# Altium footprint library Male Headers Dual Row.PcbLib: 19 footprints (part 2 of 2)
Each footprint in its own frame and in the unit in brackets; x right, y up, seen from the top. Pads: shape width x height; smd on the part's side, far side on the other; paste and mask are expansions set on the pad; w line width, h text height; cw(c..) or ccw(c..) is an arc to the next point about the centre after c.
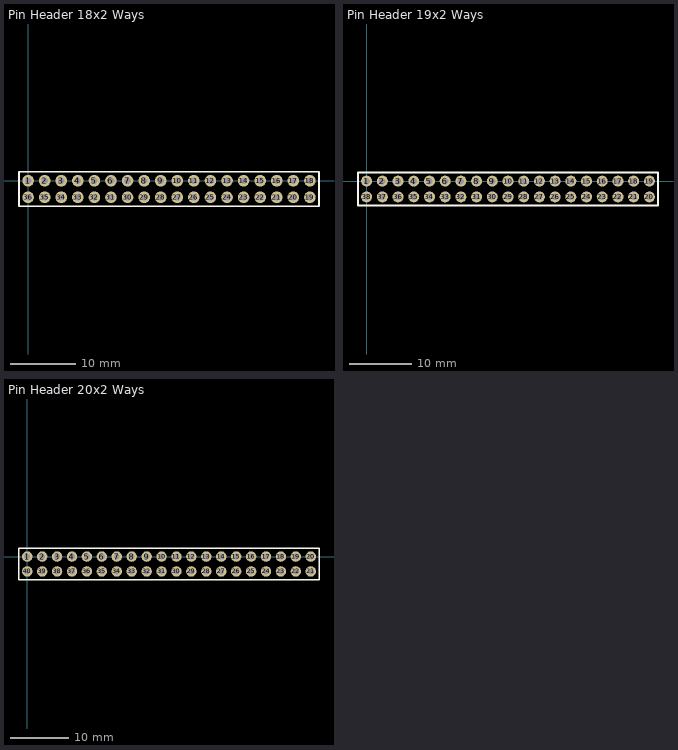
[diagram p1: the footprints below, top view; thin cyan lines are the x and y axes]

## Pin Header 18x2 Ways [mil] "Connector Header 18x2 ways PTH 0.100\" (2.54mm)"
pads (36):
  round 70 hole 40: 1(0,0) 2(100,0) 3(200,0) 4(300,0) 5(400,0) 6(500,0) 7(600,0) 8(700,0) 9(800,0) 10(900,0) 11(1000,0) 12(1100,0) 13(1200,0) 14(1300,0) 15(1400,0) 16(1500,0) 17(1600,0) 18(1700,0) 19(1700,-100) 20(1600,-100) 21(1500,-100) 22(1400,-100) 23(1300,-100) 24(1200,-100) 25(1100,-100) 26(1000,-100) 27(900,-100) 28(800,-100) 29(700,-100) 30(600,-100) 31(500,-100) 32(400,-100) 33(300,-100) 34(200,-100) 35(100,-100) 36(0,-100)
Top Overlay:
  lines w10: -55,-155 1755,-155 1755,55 -55,55 -55,-155
3D body "pin strip 18x2 ways.step": height 398.14, standoff -58.56, extent -50,-150 1750,50

## Pin Header 19x2 Ways [mil] "Connector Header 19x2 ways PTH 0.100\" (2.54mm)"
pads (38):
  round 70 hole 40: 1(0,0) 2(100,0) 3(200,0) 4(300,0) 5(400,0) 6(500,0) 7(600,0) 8(700,0) 9(800,0) 10(900,0) 11(1000,0) 12(1100,0) 13(1200,0) 14(1300,0) 15(1400,0) 16(1500,0) 17(1600,0) 18(1700,0) 19(1800,0) 20(1800,-100) 21(1700,-100) 22(1600,-100) 23(1500,-100) 24(1400,-100) 25(1300,-100) 26(1200,-100) 27(1100,-100) 28(1000,-100) 29(900,-100) 30(800,-100) 31(700,-100) 32(600,-100) 33(500,-100) 34(400,-100) 35(300,-100) 36(200,-100) 37(100,-100) 38(0,-100)
Top Overlay:
  lines w10: -55,-155 1855,-155 1855,55 -55,55 -55,-155
3D body "pin strip 19x2 ways.step": height 398.14, standoff -58.56, extent -50,-150 1850,50

## Pin Header 20x2 Ways [mil] "Connector Header 20x2 ways PTH 0.100\" (2.54mm)"
pads (40):
  round 70 hole 40: 1(0,0) 2(100,0) 3(200,0) 4(300,0) 5(400,0) 6(500,0) 7(600,0) 8(700,0) 9(800,0) 10(900,0) 11(1000,0) 12(1100,0) 13(1200,0) 14(1300,0) 15(1400,0) 16(1500,0) 17(1600,0) 18(1700,0) 19(1800,0) 20(1900,0) 21(1900,-100) 22(1800,-100) 23(1700,-100) 24(1600,-100) 25(1500,-100) 26(1400,-100) 27(1300,-100) 28(1200,-100) 29(1100,-100) 30(1000,-100) 31(900,-100) 32(800,-100) 33(700,-100) 34(600,-100) 35(500,-100) 36(400,-100) 37(300,-100) 38(200,-100) 39(100,-100) 40(0,-100)
Top Overlay:
  lines w10: -55,-155 -55,55 1955,55 1955,-155 -55,-155
3D body "pin strip 20x2 ways.step": height 398.14, standoff -58.56, extent -50,-150 1950,50